# Altium footprint library SW_TACTILE_SMD_6x6.PcbLib: 1 footprints
Each footprint in its own frame and in the unit in brackets; x right, y up, seen from the top. Pads: shape width x height; smd on the part's side, far side on the other; paste and mask are expansions set on the pad; w line width, h text height; cw(c..) or ccw(c..) is an arc to the next point about the centre after c.
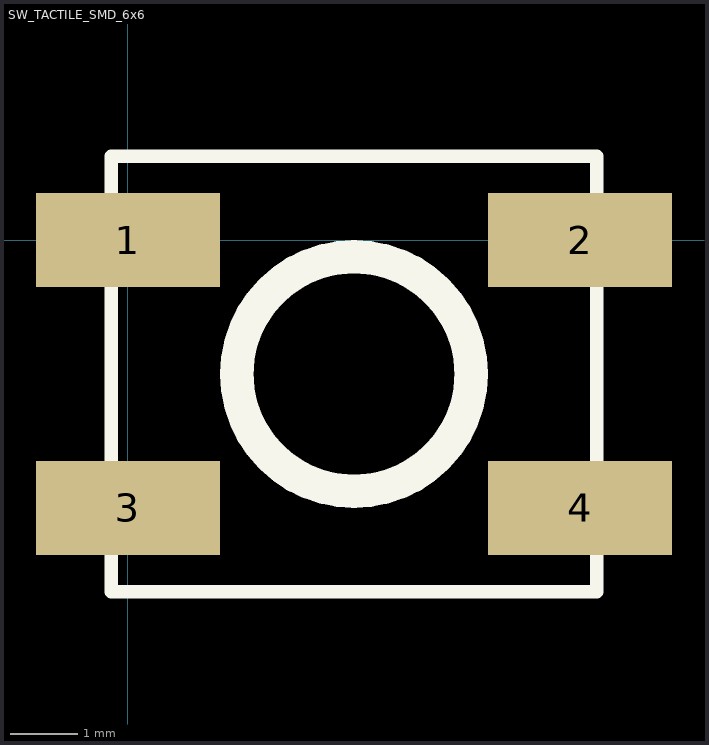
[diagram p0: the footprint, top view; thin cyan lines are the x and y axes]

## SW_TACTILE_SMD_6x6 [mm] "Omron B3S family, Panasonic EVQQ2 family, Multicomp DTS family"
pads (4):
  rect 2.75x1.4 smd: 1(0,0) 2(6.75,0) 3(0,-4) 4(6.75,-4)
Top Overlay:
  circle w0.5: c3.375,-2 r1.75
  lines w0.203: -0.25,-5.25 7,-5.25 7,1.25 -0.25,1.25 -0.25,-5.25
3D body: height 3.4, standoff 0, extent -0.125,-5.25 6.875,1.25